# Altium footprint library WPME-FDSM.PcbLib: 8 footprints
Each footprint in its own frame and in the unit in brackets; x right, y up, seen from the top. Pads: shape width x height; smd on the part's side, far side on the other; paste and mask are expansions set on the pad; w line width, h text height; cw(c..) or ccw(c..) is an arc to the next point about the centre after c.
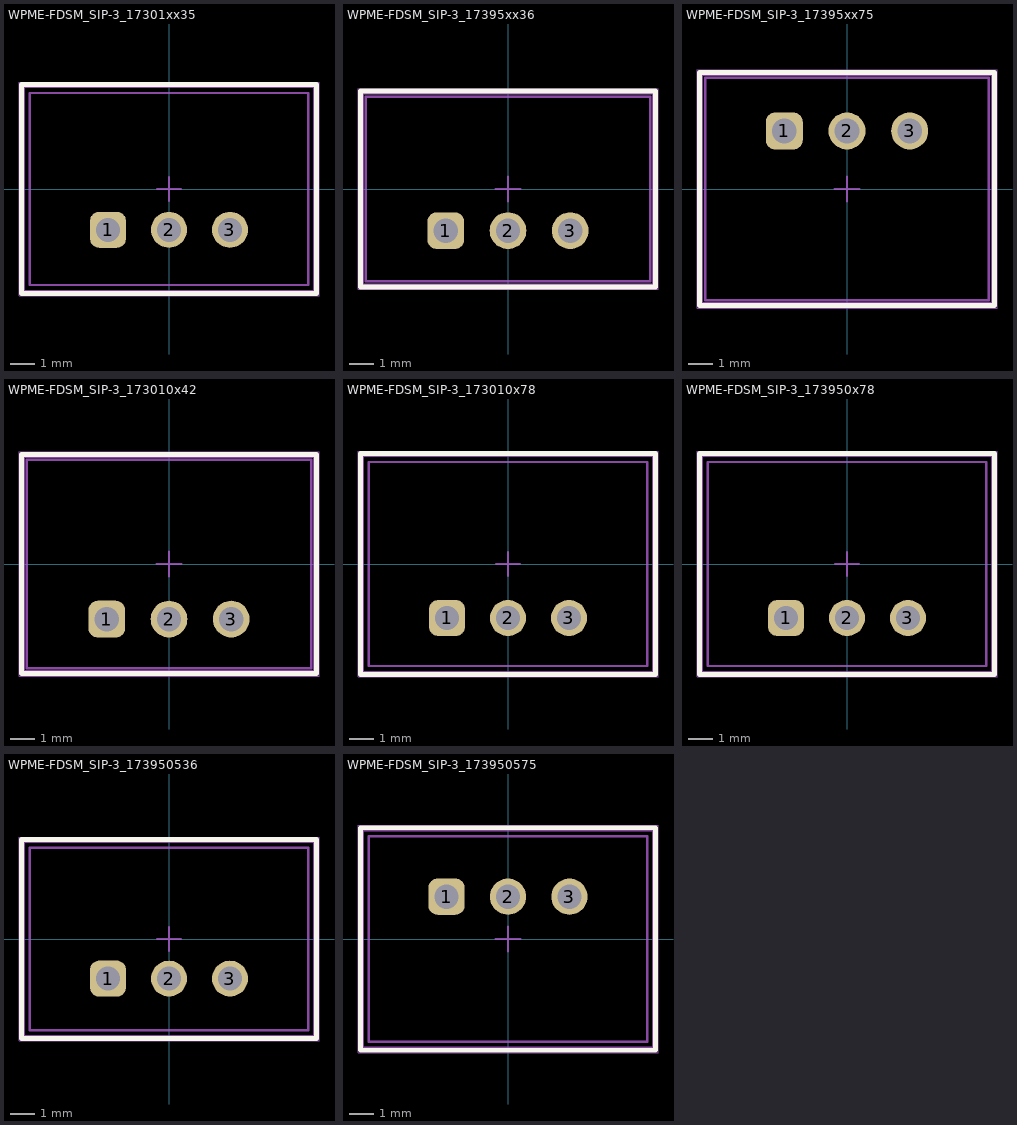
[diagram p0: the footprints below, top view; thin cyan lines are the x and y axes]

## WPME-FDSM_SIP-3_17301xx35 [mm] "Fixed Step Down Regulator Module, SIP-3, body 11.60 x 8.00 mm"
height 10.4
pads (3):
  rrect50% 1.5x1.5 hole 1: 1(-2.54,-1.7)
  round 1.5 hole 1: 2(0,-1.7) 3(2.54,-1.7)
Top Overlay:
  lines w0.2: -6.15,-4.35 6.15,-4.35 6.15,4.35 -6.15,4.35 -6.15,-4.35
Top Assembly:
  lines w0.1: -6.05,-4.25 -6.05,4.25 6.05,4.25 6.05,-4.25 -6.05,-4.25
Top Designator:
  text ".Designator" at -3.647,-0.357 h1
Top 3D Body:
  lines w0.1: -5.8,-4 -5.8,4 5.8,4 5.8,-4 -5.8,-4
Top Courtyard:
  lines w0.05: -6.25,-4.45 -6.25,4.45 6.25,4.45 6.25,-4.45 -6.25,-4.45
Top Component Center:
  lines w0.1: -0.5,0 0.5,0 ; 0,-0.5 0,0.5
3D body "173010x35.stp": height 10.45, standoff -4.05, extent -5.8,-4 5.8,4

## WPME-FDSM_SIP-3_17395xx36 [mm] "Fixed Step Down Regulator Module, SIP-3, body 11.60 x 7.55 mm"
height 10.16
pads (3):
  rrect50% 1.5x1.5 hole 1: 1(-2.54,-1.7)
  round 1.5 hole 1: 2(0,-1.7) 3(2.54,-1.7)
Top Overlay:
  lines w0.2: -6.025,-4 6.025,-4 6.025,4 -6.025,4 -6.025,-4
Top Assembly:
  lines w0.1: -5.925,-3.9 -5.925,3.9 5.925,3.9 5.925,-3.9 -5.925,-3.9
Top Designator:
  text ".Designator" at -3.647,-0.357 h1
Top 3D Body:
  lines w0.1: -5.8,-3.775 -5.8,3.775 5.8,3.775 5.8,-3.775 -5.8,-3.775
Top Courtyard:
  lines w0.05: -6.125,-4.1 -6.125,4.1 6.125,4.1 6.125,-4.1 -6.125,-4.1
Top Component Center:
  lines w0.1: -0.5,0 0.5,0 ; 0,-0.5 0,0.5
3D body "STP_WPME-FDSM_173950536 (rev1).stp": height 10.38, standoff -3.88, extent -5.8,-3.775 5.8,3.775

## WPME-FDSM_SIP-3_17395xx75 [mm] "Fixed Step Down Regulator Module, SIP-3, body 11.50 x 9.00 mm"
height 17.5
pads (3):
  rrect50% 1.5x1.5 hole 1: 1(-2.54,2.35)
  round 1.5 hole 1: 2(0,2.35) 3(2.54,2.35)
Top Overlay:
  lines w0.2: -5.975,-4.725 -5.975,4.725 5.975,4.725 5.975,-4.725 -5.975,-4.725
Top Assembly:
  lines w0.1: -5.875,-4.625 -5.875,4.625 5.875,4.625 5.875,-4.625 -5.875,-4.625
Top Designator:
  text ".Designator" at -3.647,-0.357 h1
Top 3D Body:
  lines w0.1: -5.75,-4.5 -5.75,4.5 5.75,4.5 5.75,-4.5 -5.75,-4.5
Top Courtyard:
  lines w0.05: -6.075,-4.825 -6.075,4.825 6.075,4.825 6.075,-4.825 -6.075,-4.825
Top Component Center:
  lines w0.1: -0.5,0 0.5,0 ; 0,-0.5 0,0.5
3D body "173950375.stp": height 17.5, standoff -4.1, extent -5.75,-4.5 5.75,4.5

## WPME-FDSM_SIP-3_173010x42 [mm] "Fixed Step Down Regulator Module, SIP-3, body 11.60 x 8.50 mm"
height 10.5
pads (3):
  rrect50% 1.5x1.5 hole 1: 1(-2.54,-2.25)
  round 1.5 hole 1: 2(0,-2.25) 3(2.54,-2.25)
Top Overlay:
  lines w0.2: -6.025,-4.475 -6.025,4.475 6.025,4.475 6.025,-4.475 -6.025,-4.475
Top Assembly:
  lines w0.1: -5.925,-4.375 -5.925,4.375 5.925,4.375 5.925,-4.375 -5.925,-4.375
Top Designator:
  text ".Designator" at -3.647,-0.357 h1
Top 3D Body:
  lines w0.1: -5.8,-4.25 -5.8,4.25 5.8,4.25 5.8,-4.25 -5.8,-4.25
Top Courtyard:
  lines w0.05: -6.125,-4.575 -6.125,4.575 6.125,4.575 6.125,-4.575 -6.125,-4.575
Top Component Center:
  lines w0.1: -0.5,0 0.5,0 ; 0,-0.5 0,0.5
3D body "STP_173010542 (rev1).stp": height 10.5, standoff -4, extent -5.8,-4.25 5.8,4.25

## WPME-FDSM_SIP-3_173010x78 [mm] "Fixed Step Down Regulator Module, SIP-3, body 11.60 x 8.50 mm"
height 10.5
pads (3):
  rrect50% 1.5x1.5 hole 1: 1(-2.54,-2.25)
  round 1.5 hole 1: 2(0,-2.25) 3(2.54,-2.25)
Top Overlay:
  lines w0.2: -6.15,-4.6 6.15,-4.6 6.15,4.6 -6.15,4.6 -6.15,-4.6
Top Assembly:
  lines w0.1: -6.05,-4.5 -6.05,4.5 6.05,4.5 6.05,-4.5 -6.05,-4.5
Top Designator:
  text ".Designator" at -3.647,-0.357 h1
Top 3D Body:
  lines w0.1: -5.8,-4.25 -5.8,4.25 5.8,4.25 5.8,-4.25 -5.8,-4.25
Top Courtyard:
  lines w0.05: -6.25,-4.7 -6.25,4.7 6.25,4.7 6.25,-4.7 -6.25,-4.7
Top Component Center:
  lines w0.1: -0.5,0 0.5,0 ; 0,-0.5 0,0.5
3D body "STP_173010578 (rev1).stp": height 10.55, standoff -3.95, extent -5.8,-4.25 5.8,4.25

## WPME-FDSM_SIP-3_173950x78 [mm] "Fixed Step Down Regulator Module, SIP-3, body 11.60 x 8.50 mm"
height 10.5
pads (3):
  rrect50% 1.5x1.5 hole 1: 1(-2.54,-2.25)
  round 1.5 hole 1: 2(0,-2.25) 3(2.54,-2.25)
Top Overlay:
  lines w0.2: -6.15,-4.6 -6.15,4.6 6.15,4.6 6.15,-4.6 -6.15,-4.6
Top Assembly:
  lines w0.1: -6.05,-4.5 6.05,-4.5 6.05,4.5 -6.05,4.5 -6.05,-4.5
Top Designator:
  text ".Designator" at -3.647,-0.357 h1
Top 3D Body:
  lines w0.1: -5.8,-4.25 5.8,-4.25 5.8,4.25 -5.8,4.25 -5.8,-4.25
Top Courtyard:
  lines w0.05: -6.25,-4.7 6.25,-4.7 6.25,4.7 -6.25,4.7 -6.25,-4.7
Top Component Center:
  lines w0.1: -0.5,0 0.5,0 ; 0,-0.5 0,0.5
3D body "173950378.stp": height 10.55, standoff -3.95, extent -5.8,-4.26 5.8,4.25

## WPME-FDSM_SIP-3_173950536 [mm] "Fixed Step Down Regulator Module, SIP-3, body 11.60 x 7.60 mm"
height 10.4
pads (3):
  rrect50% 1.5x1.5 hole 1: 1(-2.54,-1.65)
  round 1.5 hole 1: 2(0,-1.65) 3(2.54,-1.65)
Top Overlay:
  lines w0.2: -6.15,-4.15 6.15,-4.15 6.15,4.15 -6.15,4.15 -6.15,-4.15
Top Assembly:
  lines w0.1: -6.05,-4.05 -6.05,4.05 6.05,4.05 6.05,-4.05 -6.05,-4.05
Top Designator:
  text ".Designator" at -3.647,-0.357 h1
Top 3D Body:
  lines w0.1: -5.8,-3.8 -5.8,3.8 5.8,3.8 5.8,-3.8 -5.8,-3.8
Top Courtyard:
  lines w0.05: -6.25,-4.25 -6.25,4.25 6.25,4.25 6.25,-4.25 -6.25,-4.25
Top Component Center:
  lines w0.1: -0.5,0 0.5,0 ; 0,-0.5 0,0.5
3D body "17395xx36.stp": height 10.48, standoff -3.88, extent -5.8,-3.8 5.8,3.8

## WPME-FDSM_SIP-3_173950575 [mm] "Fixed Step Down Regulator Module, SIP-3, body 11.50 x 8.50 mm"
height 17.5
pads (3):
  rrect50% 1.5x1.5 hole 1: 1(-2.54,1.75)
  round 1.5 hole 1: 2(0,1.75) 3(2.54,1.75)
Top Overlay:
  lines w0.2: -6.1,-4.6 -6.1,4.6 6.1,4.6 6.1,-4.6 -6.1,-4.6
Top Assembly:
  lines w0.1: -6,-4.5 -6,4.5 6,4.5 6,-4.5 -6,-4.5
Top Designator:
  text ".Designator" at -3.647,-0.357 h1
Top 3D Body:
  lines w0.1: -5.75,-4.25 -5.75,4.25 5.75,4.25 5.75,-4.25 -5.75,-4.25
Top Courtyard:
  lines w0.05: -6.2,-4.7 -6.2,4.7 6.2,4.7 6.2,-4.7 -6.2,-4.7
Top Component Center:
  lines w0.1: -0.5,0 0.5,0 ; 0,-0.5 0,0.5
3D body "17395xx75.stp": height 17.5, standoff -4, extent -5.75,-4.25 5.75,4.25